# Altium schematic symbol library HB100.Schlib: 1 symbol
Pins are listed as number, name and electrical type; pins without a type are passive.

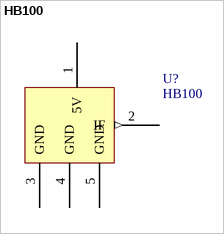
[diagram p0: symbol HB100]

## HB100
designator U?
pins: 1 5V (power), 2 IF (out), 3 GND (power), 4 GND (power), 5 GND (power)